# Altium footprint library PcbLib.PcbLib: 18 footprints (part 2 of 2)
Each footprint in its own frame and in the unit in brackets; x right, y up, seen from the top. Pads: shape width x height; smd on the part's side, far side on the other; paste and mask are expansions set on the pad; w line width, h text height; cw(c..) or ccw(c..) is an arc to the next point about the centre after c.
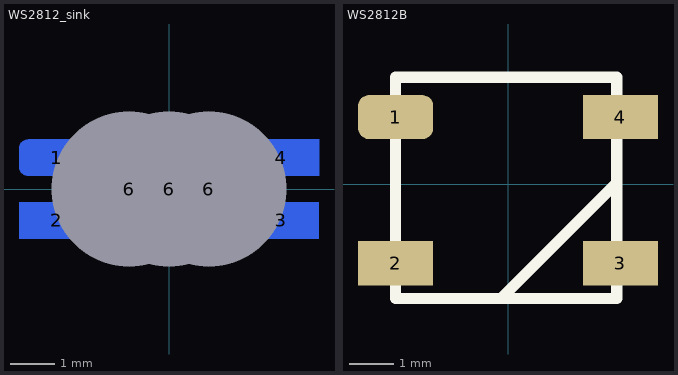
[diagram p1: the footprints below, top view; thin cyan lines are the x and y axes]

## WS2812_sink [mm]
pads (7):
  rrect50% 1.7x0.82 smd far side: 1(-2.54,0.71)
  rect 1.7x0.82 smd far side: 2(-2.54,-0.71) 3(2.54,-0.71) 4(2.54,0.71)
  oval 1.6x3.5 hole 3.5 square unplated: 6(-0.9,0) 6(0,0) 6(0.9,0)
Top Overlay:
  lines w0.254: -1.6,-1.4 -1.6,1.4 1.6,1.4 1.6,-1.4 -1.6,-1.4

## WS2812B [mm]
pads (4):
  rrect50% 1.7x1 smd: 1(-2.54,1.524)
  rect 1.7x1 smd: 2(-2.54,-1.778) 3(2.54,-1.778) 4(2.54,1.524)
Top Overlay:
  lines w0.254: -0.098,-2.518 2.44,0.019 ; -2.54,-2.576 2.46,-2.576 2.46,2.424 -2.54,2.424 -2.54,-2.576
3D body "User Library-ws2812B-1.STEP": height 1.54, standoff -0.03, extent -2.7,-2.65 2.7,2.35